# Altium integrated library ATMEGA8A-AU.IntLib: 1 symbol
Pins are listed as number, name and electrical type; pins without a type are passive.

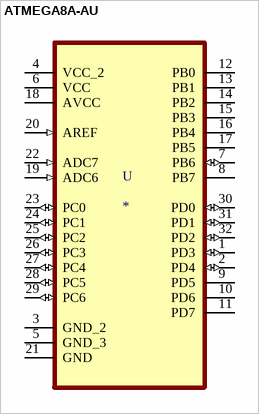
[diagram p0: symbol ATMEGA8A-AU]

## ATMEGA8A-AU
designator U
AVR AVRÂ® ATmega Microcontroller IC 8-Bit 16MHz 8KB _4K x 16_ FLASH 32-TQFP _7x7_; MF: Microchip; MP: ATMEGA8A-AU; Availability: Unavailable; SnapEDA_Link: https://www.snapeda.com/parts/ATMEGA8A-AU/Microchip/view-part/49714/?ref=snap; Value: *; Price: None; Package: TQFP-32 Microchip
footprint QFP80P900X900X120-32N
pins: 1 PD3 (io), 2 PD4 (io), 3 GND_2, 4 VCC_2 (power), 5 GND_3, 6 VCC (power), 7 PB6 (io), 8 PB7, 9 PD5, 10 PD6, 11 PD7, 12 PB0, 13 PB1, 14 PB2, 15 PB3, 16 PB4, 17 PB5, 18 AVCC (power), 19 ADC6 (in), 20 AREF (in), 21 GND, 22 ADC7 (in), 23 PC0 (io), 24 PC1 (io), 25 PC2 (io), 26 PC3 (io), 27 PC4 (io), 28 PC5 (io), 29 PC6 (io), 30 PD0 (io), 31 PD1 (io), 32 PD2 (io)